# Altium footprint library IMX6UL_ALPHA_PCB.PcbLib: 56 footprints (part 2 of 4)
Each footprint in its own frame and in the unit in brackets; x right, y up, seen from the top. Pads: shape width x height; smd on the part's side, far side on the other; paste and mask are expansions set on the pad; w line width, h text height; cw(c..) or ccw(c..) is an arc to the next point about the centre after c.
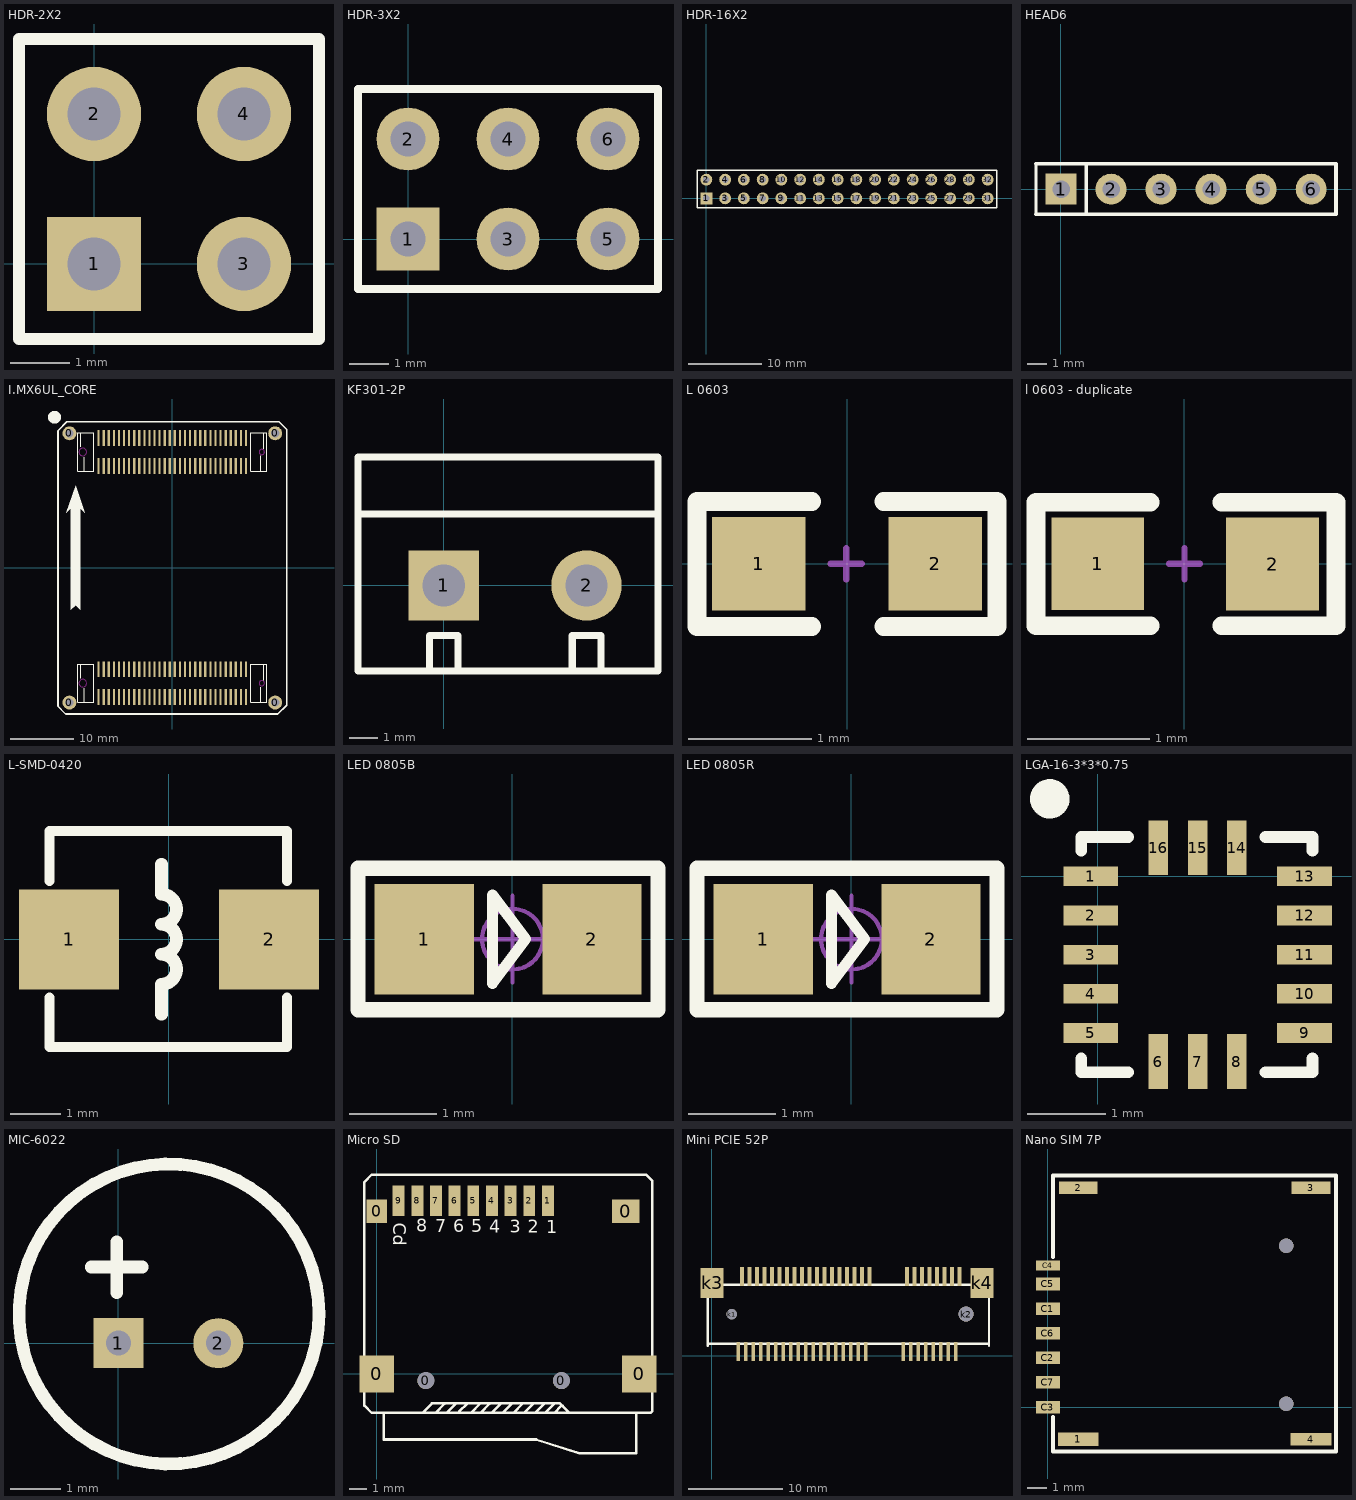
[diagram p1: the footprints below, top view; thin cyan lines are the x and y axes]

## HDR-2X2 [mm]
pads (4):
  rect 1.6x1.6 hole 0.9: 1(0,0)
  round 1.6 hole 0.9: 2(0,2.54) 3(2.54,0) 4(2.54,2.54)
Top Overlay:
  lines w0.2: -1.27,-1.27 3.81,-1.27 3.81,3.81 -1.27,3.81 -1.27,-1.27
3D body "HDR2.54-1x2P.STEP": height 8.5, standoff -3, extent 1.27,-1.27 3.81,3.81
3D body "HDR2.54-1x2P.STEP": height 8.5, standoff -3, extent -1.27,-1.27 1.27,3.81

## HDR-3X2 [mm]
pads (6):
  rect 1.6x1.6 hole 0.9: 1(0,0)
  round 1.6 hole 0.9: 2(0,2.54) 3(2.54,0) 4(2.54,2.54) 5(5.08,0) 6(5.08,2.54)
Top Overlay:
  lines w0.2: 1.482,-1.27 6.35,-1.27 ; 6.35,-1.27 6.35,3.81 -1.27,3.81 -1.27,-1.27 6.35,-1.27
3D body "HDR2.54-1x2P.STEP": height 8.5, standoff -3, extent 3.81,-1.27 6.35,3.81
3D body "HDR2.54-1x2P.STEP": height 8.5, standoff -3, extent -1.27,-1.27 1.27,3.81
3D body "HDR2.54-1x2P.STEP": height 8.5, standoff -3, extent 1.27,-1.27 3.81,3.81

## HDR-16X2 [mm]
pads (32):
  rect 1.6x1.6 hole 0.9: 1(0,0)
  round 1.6 hole 0.9: 2(0,2.54) 3(2.54,0) 4(2.54,2.54) 5(5.08,0) 6(5.08,2.54) 7(7.62,0) 8(7.62,2.54) 9(10.16,0) 10(10.16,2.54) 11(12.7,0) 12(12.7,2.54) 13(15.24,0) 14(15.24,2.54) 15(17.78,0) 16(17.78,2.54) 17(20.32,0) 18(20.32,2.54) 19(22.86,0) 20(22.86,2.54) 21(25.4,0) 22(25.4,2.54) 23(27.94,0) 24(27.94,2.54) 25(30.48,0) 26(30.48,2.54) 27(33.02,0) 28(33.02,2.54) 29(35.56,0) 30(35.56,2.54) 31(38.1,0) 32(38.1,2.54)
Top Overlay:
  lines w0.2: -1.27,-1.27 -1.27,3.81 39.37,3.81 39.37,-1.27 -1.27,-1.27
3D body "HDR2.54-1x2P.STEP": height 8.5, standoff -3, extent 36.83,-1.27 39.37,3.81
3D body "HDR2.54-1x2P.STEP": height 8.5, standoff -3, extent 29.21,-1.27 31.75,3.81
3D body "HDR2.54-1x2P.STEP": height 8.5, standoff -3, extent 31.75,-1.27 34.29,3.81
3D body "HDR2.54-1x2P.STEP": height 8.5, standoff -3, extent 24.13,-1.27 26.67,3.81
3D body "HDR2.54-1x2P.STEP": height 8.5, standoff -3, extent 26.67,-1.27 29.21,3.81
3D body "HDR2.54-1x2P.STEP": height 8.5, standoff -3, extent 34.29,-1.27 36.83,3.81
3D body "HDR2.54-1x2P.STEP": height 8.5, standoff -3, extent 16.51,-1.27 19.05,3.81
3D body "HDR2.54-1x2P.STEP": height 8.5, standoff -3, extent 19.05,-1.27 21.59,3.81
3D body "HDR2.54-1x2P.STEP": height 8.5, standoff -3, extent 11.43,-1.27 13.97,3.81
3D body "HDR2.54-1x2P.STEP": height 8.5, standoff -3, extent 13.97,-1.27 16.51,3.81
3D body "HDR2.54-1x2P.STEP": height 8.5, standoff -3, extent 21.59,-1.27 24.13,3.81
3D body "HDR2.54-1x2P.STEP": height 8.5, standoff -3, extent 3.81,-1.27 6.35,3.81
3D body "HDR2.54-1x2P.STEP": height 8.5, standoff -3, extent 6.35,-1.27 8.89,3.81
3D body "HDR2.54-1x2P.STEP": height 8.5, standoff -3, extent -1.27,-1.27 1.27,3.81
3D body "HDR2.54-1x2P.STEP": height 8.5, standoff -3, extent 1.27,-1.27 3.81,3.81
3D body "HDR2.54-1x2P.STEP": height 8.5, standoff -3, extent 8.89,-1.27 11.43,3.81

## HEAD6 [mil]
pads (6):
  rect 62x62 hole 35: 1(0.42,0.42)
  round 62 hole 35: 2(100.42,0.42) 3(200.43,0.42) 4(300.43,0.42) 5(400.43,0.42) 6(500.43,0.42)
Top Overlay:
  lines w6: -49.58,-49.58 -49.58,51.18
  lines w7: -49.58,-49.58 550,-49.58 550,51.18 -49.58,51.18 51.18,51.18 51.18,-49.58

## I.MX6UL_CORE [mm]
pads (124):
  round 2.2 hole 1.3: 0(-16.2,-21.2) 0(-16.2,21.2) 0(16.2,-21.2) 0(16.2,21.2)
  rect 0.35x2.5 smd: J1_1(-11.6,20.45) J1_2(-10.8,20.45) J1_3(-10,20.45) J1_4(-9.2,20.45) J1_5(-8.4,20.45) J1_6(-7.6,20.45) J1_7(-6.8,20.45) J1_8(-6,20.45) J1_9(-5.2,20.45) J1_10(-4.4,20.45) J1_11(-3.6,20.45) J1_12(-2.8,20.45) J1_13(-2,20.45) J1_14(-1.2,20.45) J1_15(-0.4,20.45) J1_16(0.4,20.45) J1_17(1.2,20.45) J1_18(2,20.45) J1_19(2.8,20.45) J1_20(3.6,20.45) J1_21(4.4,20.45) J1_22(5.2,20.45) J1_23(6,20.45) J1_24(6.8,20.45) J1_25(7.6,20.45) J1_26(8.4,20.45) J1_27(9.2,20.45) J1_28(10,20.45) J1_29(10.8,20.45) J1_30(11.6,20.45) J1_31(11.6,16.05) J1_32(10.8,16.05) J1_33(10,16.05) J1_34(9.2,16.05) J1_35(8.4,16.05) J1_36(7.6,16.05) J1_37(6.8,16.05) J1_38(6,16.05) J1_39(5.2,16.05) J1_40(4.4,16.05) J1_41(3.6,16.05) J1_42(2.8,16.05) J1_43(2,16.05) J1_44(1.2,16.05) J1_45(0.4,16.05) J1_46(-0.4,16.05) J1_47(-1.2,16.05) J1_48(-2,16.05) J1_49(-2.8,16.05) J1_50(-3.6,16.05) J1_51(-4.4,16.05) J1_52(-5.2,16.05) J1_53(-6,16.05) J1_54(-6.8,16.05) J1_55(-7.6,16.05) J1_56(-8.4,16.05) J1_57(-9.2,16.05) J1_58(-10,16.05) J1_59(-10.8,16.05) J1_60(-11.6,16.05) J2_1(-11.6,-15.95) J2_2(-10.8,-15.95) J2_3(-10,-15.95) J2_4(-9.2,-15.95) J2_5(-8.4,-15.95) J2_6(-7.6,-15.95) J2_7(-6.8,-15.95) J2_8(-6,-15.95) J2_9(-5.2,-15.95) J2_10(-4.4,-15.95) J2_11(-3.6,-15.95) J2_12(-2.8,-15.95) J2_13(-2,-15.95) J2_14(-1.2,-15.95) J2_15(-0.4,-15.95) J2_16(0.4,-15.95) J2_17(1.2,-15.95) J2_18(2,-15.95) J2_19(2.8,-15.95) J2_20(3.6,-15.95) J2_21(4.4,-15.95) J2_22(5.2,-15.95) J2_23(6,-15.95) J2_24(6.8,-15.95) J2_25(7.6,-15.95) J2_26(8.4,-15.95) J2_27(9.2,-15.95) J2_28(10,-15.95) J2_29(10.8,-15.95) J2_30(11.6,-15.95) J2_31(11.6,-20.35) J2_32(10.8,-20.35) J2_33(10,-20.35) J2_34(9.2,-20.35) J2_35(8.4,-20.35) J2_36(7.6,-20.35) J2_37(6.8,-20.35) J2_38(6,-20.35) J2_39(5.2,-20.35) J2_40(4.4,-20.35) J2_41(3.6,-20.35) J2_42(2.8,-20.35) J2_43(2,-20.35) J2_44(1.2,-20.35) J2_45(0.4,-20.35) J2_46(-0.4,-20.35) J2_47(-1.2,-20.35) J2_48(-2,-20.35) J2_49(-2.8,-20.35) J2_50(-3.6,-20.35) J2_51(-4.4,-20.35) J2_52(-5.2,-20.35) J2_53(-6,-20.35) J2_54(-6.8,-20.35) J2_55(-7.6,-20.35) J2_56(-8.4,-20.35) J2_57(-9.2,-20.35) J2_58(-10,-20.35) J2_59(-10.8,-20.35) J2_60(-11.6,-20.35)
Top Overlay:
  circle w1.016: c-18.534,23.725 r0.508
  region: -15.97,-6.602 -15.97,9.425 -16.707,8.688 -15.233,12.956 -13.76,8.688 -14.497,9.425 -14.497,-6.602 -15.233,-5.866
  lines w0.152: -14.4,-17.35 -14.4,-15.15 ; -14.4,19.05 -14.4,21.25 ; -13.9,-21.15 -13.9,-18.95 ; -13.9,15.25 -13.9,17.45 ; -12.375,-15.175 -12.375,-21.15 -14.875,-21.15 -14.875,-15.15 -12.375,-15.15 ; -12.375,21.225 -12.375,15.25 -14.875,15.25 -14.875,21.25 -12.375,21.25 ; 13.9,-21.15 13.9,-18.75 ; 13.9,15.25 13.9,17.65 ; 14.4,-17.65 14.4,-15.15 ; 14.4,18.75 14.4,21.25 ; 12.375,-21.15 14.875,-21.15 14.875,-15.15 12.375,-15.15 12.375,-21.15 ; 12.375,15.25 12.375,21.25 14.875,21.25 14.875,15.25 12.375,15.25
  lines w0.254: -18,-21.8 -18,21.6 -16.6,23 16.8,23 18,21.8 18,-21.6 16.6,-23 -16.8,-23 -18,-21.8
Keep-Out Layer:
  circle w0.127: c14.1,-18.15 r0.42
  circle w0.127: c-14.1,-18.15 r0.6
  circle w0.127: c-14.1,18.25 r0.6
  circle w0.127: c14.1,18.25 r0.42

## KF301-2P [mm]
pads (2):
  rect 2.5x2.5 hole 1.5: 1(0,0)
  round 2.5 hole 1.5: 2(5.08,0)
Top Overlay:
  lines w0.254: -3.048,2.54 7.62,2.54 ; -0.508,-3.048 -0.508,-1.778 0.508,-1.778 0.508,-3.048 ; 4.572,-3.048 4.572,-1.778 5.588,-1.778 5.588,-3.048 ; -3.048,-3.048 -3.048,4.572 7.62,4.572 7.62,-3.048 -3.048,-3.048
3D body "KF301.STEP": height 10.05, standoff -3.75, extent -2.87,-3 2.63,4.6
3D body "KF301.STEP": height 10.05, standoff -3.75, extent 2.13,-3 7.63,4.6

## L 0603 [mil]
pads (2):
  rect 30x30 smd mask+2: 1(-28.25,0) 2(28.25,0)
Top Overlay:
  lines w6: -11.25,-20.06 -48,-20.06 -48,19.94 -11.25,19.94 ; 11.75,-20.06 48,-20.06 48,19.94 11.75,19.94
Mechanical 15:
  lines w2: -5.25,0 4.75,0 ; -0.25,-5 -0.25,0 -0.25,5
3D body "0603.STEP": height 31.5, standoff -0.11, extent -31.75,-15.75 31.25,15.75

## l 0603 - duplicate [mil]
pads (2):
  rect 30x30 smd: 1(-28,0) 2(28.5,-0.06)
Top Overlay:
  lines w6: -11,-20.06 -48,-20.06 -48,19.94 -11,19.94 ; 12,-20.06 49,-20.06 49,19.94 12,19.94
Mechanical 15:
  lines w2: -5,0 5,0 ; 0,-5 0,0 0,5
3D body "0603.STEP": height 31.5, standoff -0.11, extent -31.5,-15.75 31.5,15.75

## L-SMD-0420 [mm]
pads (2):
  rect 2x2 smd: 1(-2,0) 2(2,0)
Top Overlay:
  lines w0.2: -2.388,-1.168 -2.388,-2.159 2.362,-2.159 2.362,-1.168 ; -2.388,1.168 -2.388,2.17 2.362,2.17 2.362,1.168
  lines w0.254: -0.15,-1.5 -0.15,-0.9 ccw(c-0.15,-0.6) -0.15,-0.3 ccw(c-0.15,0) -0.15,0.3 ccw(c-0.15,0.6) -0.15,0.9 -0.15,1.5
3D body "User Library-0420CDMCB_DS.STEP": height 1.91, standoff -0.01, extent -2.265,-2.057 2.235,2.043

## LED 0805B [mil]
pads (2):
  rect 45x50 smd: 1(-40,0) 2(36.01,0)
Top Overlay:
  lines w5: -9,-20 6,0 -9,20 -9,-20
  lines w7: -70.03,-31.94 65.97,-31.94 65.97,32.06 -70.03,32.06 -70.03,-31.94
Mechanical 15:
  circle w1.97: c0,0 r13.78
  lines w1.97: -19.68,0 19.68,0 ; 0,-19.68 0,19.68
3D body "LED 0805玻璃罩.STEP": height 31.69, standoff 12.01, extent -29.49,-24.65 29.49,24.65
3D body "LED 0805-B.STEP": height 26.33, standoff -0.16, extent -39.37,-24.65 39.37,24.65

## LED 0805R [mil]
pads (2):
  rect 45x50 smd: 1(-40,0) 2(36.01,0)
Top Overlay:
  lines w5: -9,-20 6,0 -9,20 -9,-20
  lines w7: -70.03,-31.94 65.97,-31.94 65.97,32.06 -70.03,32.06 -70.03,-31.94
Mechanical 15:
  circle w1.97: c0,0 r13.78
  lines w1.97: -19.68,0 19.68,0 ; 0,-19.68 0,19.68
3D body "LED 0805玻璃罩.STEP": height 31.69, standoff 12.01, extent -29.49,-24.65 29.49,24.65
3D body "LED 0805-R.STEP": height 26.33, standoff -0.16, extent -39.37,-24.65 39.37,24.64

## LGA-16-3*3*0.75 [mm]
pads (16):
  rect 0.7x0.25 smd: 1(-0.09,0) 2(-0.09,-0.5) 3(-0.09,-1) 4(-0.09,-1.5) 5(-0.09,-2) 9(2.64,-2) 10(2.64,-1.5) 11(2.64,-1) 12(2.64,-0.5) 13(2.64,0)
  rect 0.25x0.7 smd: 6(0.775,-2.365) 7(1.275,-2.365) 8(1.775,-2.365) 14(1.775,0.365) 15(1.275,0.365) 16(0.775,0.365)
Top Overlay:
  lines w0.15: -0.21,-2.325 -0.21,-2.5 0.39,-2.5 ; -0.21,0.325 -0.21,0.5 0.39,0.5 ; 2.14,-2.5 2.74,-2.5 2.74,-2.325 ; 2.14,0.5 2.74,0.5 2.74,0.325
  lines w0.254: -0.737,0.989 ccw(c-0.612,0.989) -0.736,1.005
3D body: height 0.76, standoff 0.1, extent -0.285,-2.55 2.815,0.55

## MIC-6022 [mm]
pads (2):
  rect 1x1 hole 0.5: 1(0,0)
  round 1 hole 0.5: 2(2,0)
Top Overlay:
  circle w0.254: c1.013,0.584 r3
  lines w0.254: -0.54,1.524 0.476,1.524 ; -0.032,1.016 -0.032,2.032

## Micro SD [mm]
pads (15):
  rect 2.032x2.2 smd: 0(0,0) 0(15.5,0)
  rect 1.2x1.4 smd: 0(0,9.6)
  round 1 hole 1 unplated: 0(2.9,-0.4) 0(10.9,-0.4)
  rect 1.6x1.4 smd: 0(14.7,9.6)
  rect 0.7x1.8 smd: 1(10.1,10.227) 2(9,10.227) 3(7.9,10.227) 4(6.8,10.227) 5(5.7,10.227) 6(4.6,10.227) 7(3.5,10.227) 8(2.4,10.227) 9(1.3,10.227)
Top Overlay:
  lines w0.152: 0.423,-2.295 0.423,-3.87 9.414,-3.87 ; 3.471,-2.295 4.004,-1.762 4.004,-1.736 ; 4.131,-2.295 4.639,-1.787 4.639,-1.736 ; 4.868,-2.295 4.868,-2.219 5.35,-1.736 ; 5.553,-2.295 6.112,-1.736 6.138,-1.736 ; 6.138,-2.295 6.671,-1.762 6.671,-1.736 ; 6.773,-2.295 7.331,-1.736 7.433,-1.736 ; 7.433,-2.295 7.992,-1.736 8.017,-1.736 ; 8.068,-2.295 8.601,-1.762 8.601,-1.736 ; 8.703,-2.295 9.262,-1.736 9.389,-1.736 ; 9.338,-2.295 9.897,-1.736 9.922,-1.736 ; 9.389,-3.87 11.954,-4.683 15.307,-4.683 15.307,-2.321 ; 9.922,-2.295 10.481,-1.736 ; 10.481,-2.295 10.887,-1.889 10.964,-1.889 ; -0.289,-2.295 -0.72,-1.863 -0.72,11.319 -0.289,11.751 15.891,11.751 16.272,11.37 16.272,-2.194 16.171,-2.295 ; -0.289,-2.295 16.171,-2.295 ; -0.289,-2.295 2.709,-2.295 3.267,-1.736 10.811,-1.736 11.37,-2.295 16.171,-2.295
  text "Cd" at 0.981,8.932 h0.76
  text "8" at 2.328,8.373 h0.76
  text "7" at 3.445,8.347 h0.76
  text "6" at 4.512,8.347 h0.76
  text "5" at 5.579,8.347 h0.76
  text "4" at 6.646,8.322 h0.76
  text "3" at 7.839,8.322 h0.76
  text "2" at 8.906,8.322 h0.76
  text "1" at 9.998,8.297 h0.76
3D body "sdcard.STEP": height 1.8, standoff -0.7, extent -0.272,-4.625 16.002,10.569

## Mini PCIE 52P [mm]
pads (56):
  rect 0.4x2 smd: 1(26.419,8.465) 2(26.019,0.444) 3(25.619,8.465) 4(25.219,0.444) 5(24.819,8.465) 6(24.419,0.444) 7(24.019,8.465) 8(23.619,0.444) 9(23.219,8.465) 10(22.819,0.444) 11(22.419,8.465) 12(22.019,0.444) 13(21.619,8.465) 14(21.219,0.444) 15(20.819,8.465) 16(20.419,0.444) 17(16.819,8.465) 18(16.419,0.444) 19(16.019,8.465) 20(15.619,0.444) 21(15.219,8.465) 22(14.819,0.444) 23(14.419,8.465) 24(14.019,0.444) 25(13.619,8.465) 26(13.219,0.444) 27(12.819,8.465) 28(12.419,0.444) 29(12.019,8.465) 30(11.619,0.444) 31(11.219,8.465) 32(10.819,0.444) 33(10.419,8.465) 34(10.019,0.444) 35(9.619,8.465) 36(9.219,0.444) 37(8.819,8.465) 38(8.419,0.444) 39(8.019,8.465) 40(7.619,0.444) 41(7.219,8.465) 42(6.819,0.444) 43(6.419,8.465) 44(6.019,0.444) 45(5.619,8.465) 46(5.219,0.444) 47(4.819,8.465) 48(4.419,0.444) 49(4.019,8.465) 50(3.619,0.444) 51(3.219,8.465) 52(2.819,0.444)
  round 1.1 hole 1.1 unplated: k1(2.119,4.444)
  round 1.6 hole 1.6 unplated: k2(27.119,4.444)
  rect 2.5x3.2 smd: k3(0.019,7.765) k4(28.819,7.765)
Top Overlay:
  lines w0.254: -0.431,1.044 -0.431,7.594 29.569,7.594 29.569,1.044 ; -0.431,1.265 29.569,1.265

## Nano SIM 7P [mm]
pads (11):
  rect 2.1x0.7 smd: 1(1.565,-1.67)
  rect 2x0.65 smd: 2(1.565,11.32) 3(13.565,11.32)
  rect 2.1x0.65 smd: 4(13.565,-1.67)
  rect 1.23x0.65 smd: C1(0,5.08) C2(0,2.54) C3(0,0) C5(0,6.35) C6(0,3.81) C7(0,1.27)
  rect 1.23x0.5 smd: C4(0,7.3)
via 12.288,0.17 diameter 0.75 hole 0.75
via 12.288,8.33 diameter 0.75 hole 0.75
Top Overlay:
  lines w0.203: 0.254,-0.508 0.254,-2.286 14.859,-2.286 14.859,11.938 0.254,11.938 0.254,7.747